# EAGLE library part ETHBRD_EN28J60MINI (library domonetic)
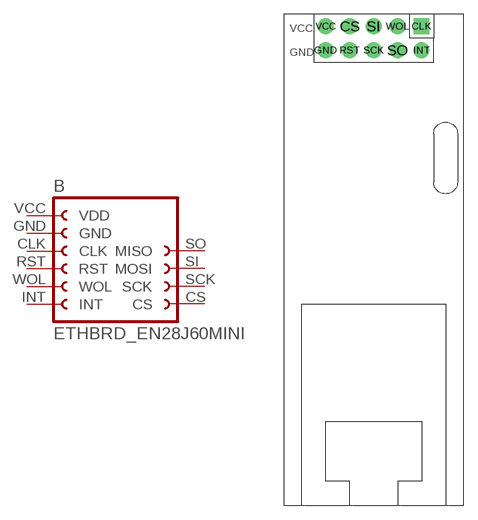
[diagram p10: symbol with the pads of PTHENC28J60MINI; footprint PTHENC28J60MINI]

Designator prefix B

## ETHBRD_EN28J60MINI  [PTHENC28J60MINI]
CLK  CLK  in
CS  CS  in
GND  GND  pwr
INT  INT  out
RST  RST  in
SCK  SCK  in
SI  MOSI  in
SO  MISO  out
VCC  VDD  pwr
WOL  WOL  out

## Footprint PTHENC28J60MINI (pad centres in mm)
drill 0.9 pad 1.676 square: CLK 1.27,0
drill 0.9 pad 1.676: CS -6.35,0; GND -8.89,-2.54; INT 1.27,-2.54; RST -6.35,-2.54; SCK -3.81,-2.54; SI -3.81,0; SO -1.27,-2.54; VCC -8.89,0; WOL -1.27,0